# Altium footprint library PcbLib1_AL.PcbLib: 24 footprints (part 1 of 2)
Each footprint in its own frame and in the unit in brackets; x right, y up, seen from the top. Pads: shape width x height; smd on the part's side, far side on the other; paste and mask are expansions set on the pad; w line width, h text height; cw(c..) or ccw(c..) is an arc to the next point about the centre after c.
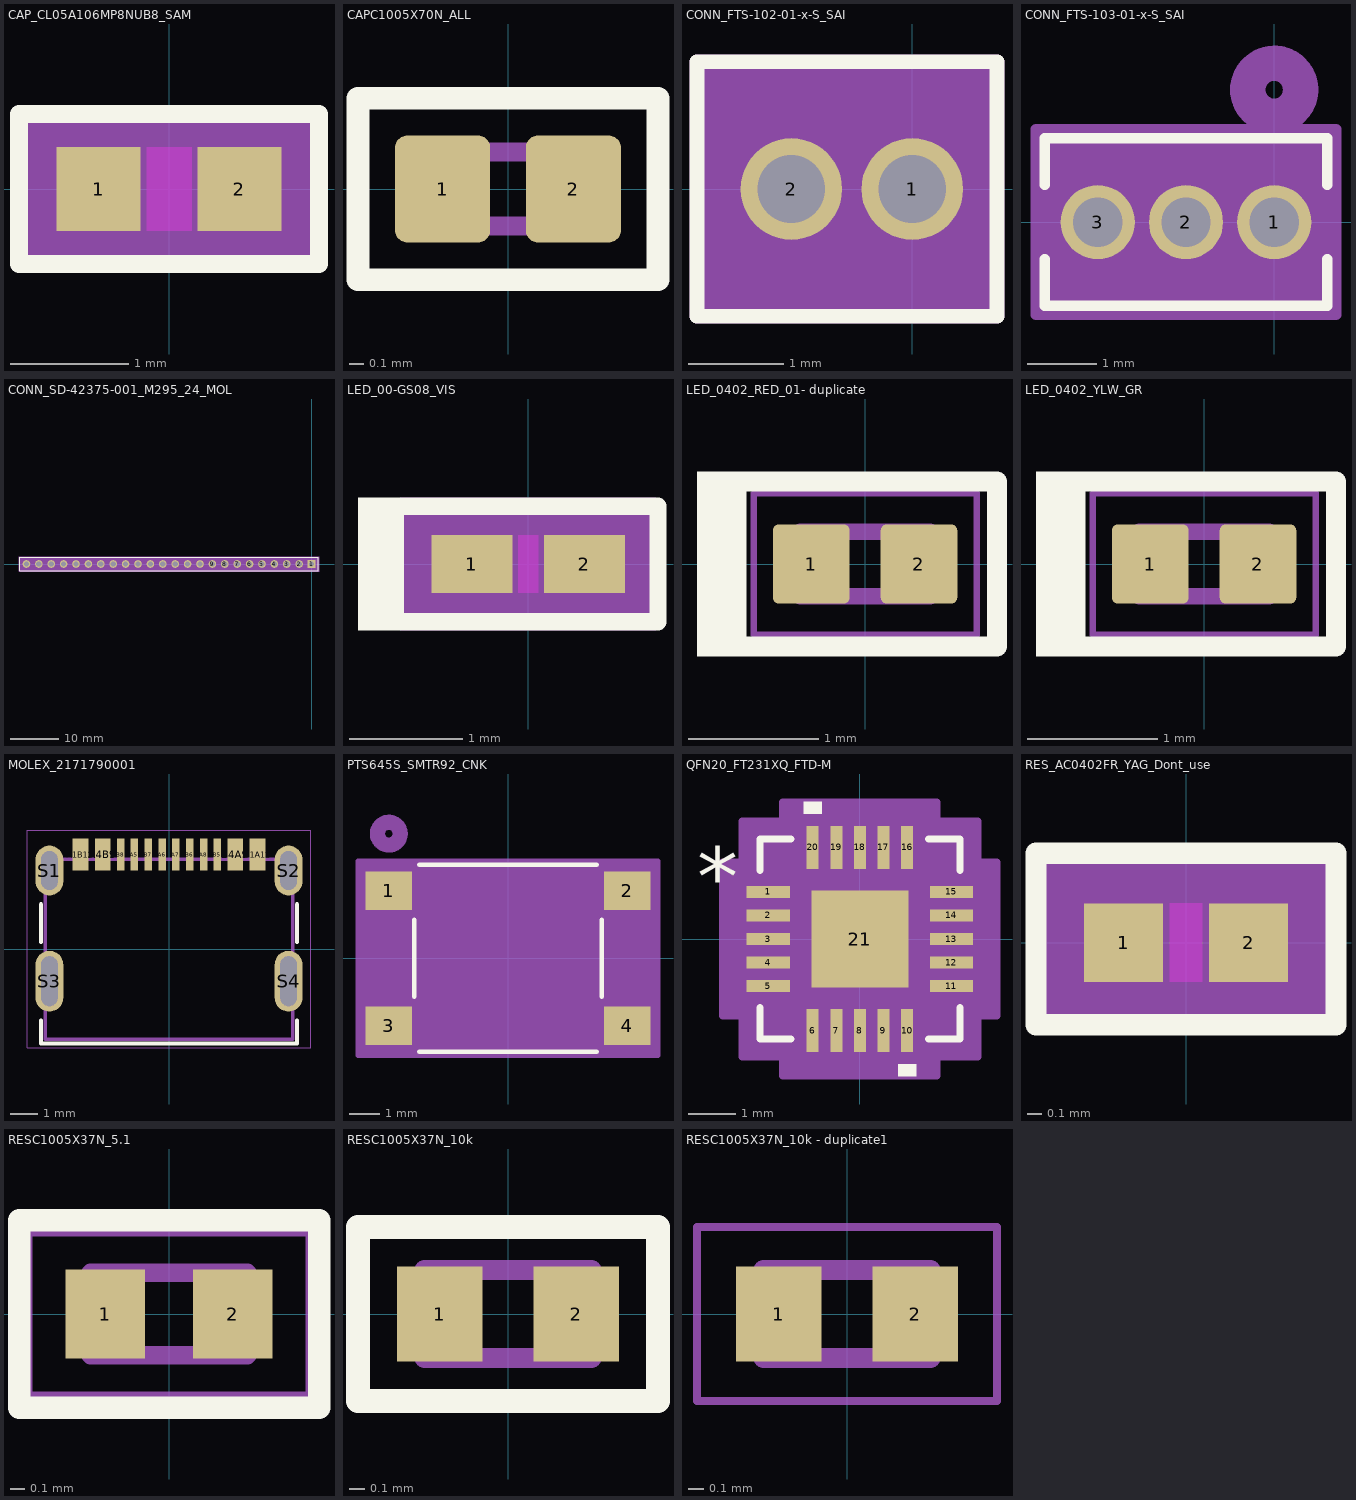
[diagram p0: the footprints below, top view; thin cyan lines are the x and y axes]

## CAP_CL05A106MP8NUB8_SAM [mil]
pads (2):
  rect 28x28 smd paste+0 mask+0: 1(-23.5,0) 2(23.5,0)
Top Overlay:
  lines w6: -50,-25 50,-25 50,25 -50,25 -50,-25
Keep-Out Layer:
  region: -7.5,-14 -7.5,14 7.5,14 7.5,-14
Mechanical 13:
  lines w1: -23.5,-14 -23.5,14 ; -23.5,-14 -9.5,-14 -9.5,14 -23.5,14 ; -23.5,-14 23.5,-14 ; -23.5,-14 -23.5,14 ; -23.5,14 23.5,14 ; 23.5,-14 23.5,14 ; 23.5,-14 9.5,-14 9.5,14 23.5,14 ; 23.5,-14 23.5,14
Mechanical 15:
  region: 47.5,-24 -47.5,-24 -47.5,24 47.5,24
  lines w6: -47.5,-24 -47.5,24 47.5,24 47.5,-24 -47.5,-24
3D body "CAP_CL05A106MP8NUB8_SAM.step": height 35, standoff 0, extent -23.5,-14.02 23.5,14.02

## CAPC1005X70N_ALL [mm]
height 0.7
pads (2):
  rrect25% 0.64x0.72 smd: 1(-0.44,0) 2(0.44,0)
Top Overlay:
  lines w0.152: -1.01,-0.61 1.01,-0.61 1.01,0.61 -1.01,0.61 -1.01,-0.61
Mechanical 13:
  lines w0.127: -0.5,-0.25 0.5,-0.25 0.5,0.25 -0.5,0.25 -0.5,-0.25
Mechanical 15:
  lines w0.05: -1.01,-0.61 -1.01,0.61 1.01,0.61 1.01,-0.61 -1.01,-0.61
3D body "0402_CAP.stp": height 0.65, standoff 0.01, extent -0.508,-0.254 0.508,0.254

## CONN_FTS-102-01-x-S_SAI [mil]
pads (2):
  round 42 hole 28 paste-99999 mask+0: 1(0,0) 2(-50,0)
Top Overlay:
  lines w6: -89,-52.5 -89,52.5 35,52.5 35,-52.5 -89,-52.5
Mechanical 13:
  lines w1: -78,-42.5 -78,42.5 25,42.5 25,-42.5 -78,-42.5
Mechanical 15:
  region: 35,52.5 -89,52.5 -89,-52.5 35,-52.5
  lines w6: -89,-52.5 35,-52.5 35,52.5 -89,52.5 -89,-52.5
3D body "FTS-102-01-F-S.stp": height 154, standoff -90, extent -76,-42.5 24,42.5

## CONN_FTS-103-01-x-S_SAI [mil]
pads (3):
  round 42 hole 28 paste-99999 mask+0: 1(0,0) 2(-50,0) 3(-100,0)
Top Overlay:
  lines w6: -130,-21.08 -130,-47.5 30,-47.5 30,-21.08 ; -130,21.08 -130,47.5 30,47.5 30,21.08
Mechanical 13:
  circle w20: c0,75 r15
  lines w1: -125,-42.5 -125,42.5 25,42.5 25,-42.5 -125,-42.5
Mechanical 15:
  region: 35,52.5 -135,52.5 -135,-52.5 35,-52.5
  lines w6: -135,-52.5 35,-52.5 35,52.5 -135,52.5 -135,-52.5
3D body "FTS-103-01-F-S.stp": height 154, standoff -90, extent -125,-42.5 25,42.5

## CONN_SD-42375-001_M295_24_MOL [mil]
pads (24):
  rect 62x62 / inner rect 60x60 / far side rect 62x62 hole 42 paste-99999 mask+0: 1(0,0)
  round 62 / inner round 60 / far side round 62 hole 42 paste-99999 mask+0: 2(-100,0) 3(-200,0) 4(-300,0) 5(-400,0) 6(-500,0) 7(-600,0) 8(-700,0) 9(-800,0) 10(-900,0) 11(-1000,0) 12(-1100,0) 13(-1200,0) 14(-1300,0) 15(-1400,0) 16(-1500,0) 17(-1600,0) 18(-1700,0) 19(-1800,0) 20(-1900,0) 21(-2000,0) 22(-2100,0) 23(-2200,0) 24(-2300,0)
Top Overlay:
  lines w6: -2355,-54 55,-54 55,54 -2355,54 -2355,-54
Mechanical 13:
  lines w1: -2350,-49 50,-49 50,49 -2350,49 -2350,-49
Mechanical 15:
  region: 60,59 -2360,59 -2360,-59 60,-59
  lines w6: -2360,-59 -2360,59 60,59 60,-59 -2360,-59
3D body "022284245.stp": height 385, standoff -120, extent -2350,-49 50,49

## LED_00-GS08_VIS [mil]
pads (2):
  rect 28x20 smd paste+0 mask+0: 1(-19.5,0) 2(19.5,0)
Top Layer keep-out:
  region: -3.5,-8 -3.5,8 3.5,8 3.5,-8
Top Overlay:
  rectangle: -59,-23 -43,23
  lines w6: -50,-20 45,-20 45,20 -50,20 -50,-20
Keep-Out Layer:
  region: -3.5,-10 -3.5,10 3.5,10 3.5,-10
Mechanical 13:
  circle w0: c-14.5,0 r3
  lines w1: -19.5,-10 -19.5,10 ; -19.5,-10 -5.5,-10 -5.5,10 -19.5,10 ; -19.5,-10 19.5,-10 ; -19.5,-10 -19.5,10 ; -19.5,10 19.5,10 ; 19.5,-10 5.5,-10 5.5,10 19.5,10 ; 19.5,-10 19.5,10 ; 19.5,-10 19.5,10
Mechanical 15:
  region: 43.5,-20 -43.5,-20 -43.5,20 43.5,20
  lines w6: -43.5,-20 -43.5,20 43.5,20 43.5,-20 -43.5,-20
3D body "LED_00-GS08_VIS.step": height 14.02, standoff 0, extent -19.49,-10 19.49,10

## LED_0402_RED_01- duplicate [mm]
pads (2):
  rrect15% 0.59x0.61 smd: 1(-0.415,0) 2(0.415,0)
Top Overlay:
  rectangle: -1.295,-0.711 -0.914,0.711
  lines w0.152: -1.016,-0.635 1.016,-0.635 1.016,0.635 -1.016,0.635 -1.016,-0.635
Mechanical 13:
  lines w0.127: -0.5,-0.25 -0.5,0.25 0.5,0.25 0.5,-0.25 -0.5,-0.25
Mechanical 15:
  lines w0.05: -0.86,-0.545 -0.86,0.545 0.86,0.545 0.86,-0.545 -0.86,-0.545
3D body "ChipLedWithLensRed.stp": height 0.35, standoff 0, extent -0.502,-0.252 0.502,0.252
3D body "ChipLedWithLensRed.stp": height -0.38, standoff -0.73, extent -0.502,-0.252 0.502,0.252

## LED_0402_YLW_GR [mm]
pads (2):
  rrect15% 0.59x0.61 smd: 1(-0.415,0) 2(0.415,0)
Top Overlay:
  rectangle: -1.295,-0.711 -0.914,0.711
  lines w0.152: -1.016,-0.635 -1.016,0.635 1.016,0.635 1.016,-0.635 -1.016,-0.635
Mechanical 13:
  lines w0.127: -0.5,-0.25 0.5,-0.25 0.5,0.25 -0.5,0.25 -0.5,-0.25
Mechanical 15:
  lines w0.05: -0.86,-0.545 0.86,-0.545 0.86,0.545 -0.86,0.545 -0.86,-0.545
3D body "VLMx15xx_0402.stp": height 0.32, standoff -0.03, extent -0.5,-0.25 0.5,0.25

## MOLEX_2171790001 [mm]
height 3.16
pads (16):
  rect 0.565x1.15 smd mask+0.064: A1B12(-3.2,3.425) A4B9(-2.4,3.425) B1A12(3.2,3.425) B4A9(2.4,3.425)
  rect 0.273x1.15 smd mask+0.064: A5(-1.25,3.425) A6(-0.25,3.425) A7(0.25,3.425) A8(1.25,3.425) B5(1.75,3.425) B6(0.75,3.425) B7(-0.75,3.425) B8(-1.75,3.425)
  oval 1x1.8 hole 0.6 slot 1.4 at 90 deg mask+0.064: S1(-4.32,2.85) S2(4.32,2.85)
  oval 1x2.2 hole 0.6 slot 1.8 at 90 deg mask+0.064: S3(-4.32,-1.15) S4(4.32,-1.15)
Top Overlay:
  lines w0.152: -4.62,-2.57 -4.62,-3.4 4.62,-3.4 4.62,-2.57 ; -4.62,0.27 -4.62,1.63 ; 4.62,0.27 4.62,1.63
Mechanical 13:
  lines w0.13: -4.47,-3.25 4.47,-3.25 4.47,3.25 -4.47,3.25 -4.47,-3.25
Mechanical 15:
  lines w0.01: -5.12,-3.55 -5.12,4.3 5.12,4.3 5.12,-3.55 -5.12,-3.55
3D body "2171790001.stp": height 3.26, standoff -0.8, extent -4.47,-3.324 4.47,3.426

## PCBComponent_1 [mm]

## PTS645S_SMTR92_CNK [mm]
pads (4):
  rect 1.549x1.295 smd paste+0 mask+0: 1(-3.975,2.25) 2(3.975,2.25) 3(-3.975,-2.25) 4(3.975,-2.25)
Top Overlay:
  lines w0.152: -3.124,-1.278 -3.124,1.278 ; -2.957,-3.124 2.957,-3.124 ; -2.957,3.124 2.957,3.124 ; 3.124,-1.278 3.124,1.278
Mechanical 13:
  circle w0.508: c-3.975,4.155 r0.381
  lines w0.025: -2.997,-2.997 2.997,-2.997 2.997,2.997 -2.997,2.997 -2.997,-2.997
Mechanical 15:
  region: 5.004,3.251 -5.004,3.251 -5.004,-3.251 5.004,-3.251
  lines w0.152: -5.004,-3.251 -5.004,3.251 5.004,3.251 5.004,-3.251 -5.004,-3.251
3D body "PTS645SH50SMTR92 LFS.STEP": height 5, standoff 0, extent -4.475,-3 4.525,3

## QFN20_FT231XQ_FTD-M [mil]
pads (21):
  rect 36x10 smd paste+0 mask+0: 1(-76.5,39.37) 2(-76.5,19.68) 3(-76.5,0) 4(-76.5,-19.68) 5(-76.5,-39.37) 11(76.5,-39.37) 12(76.5,-19.68) 13(76.5,0) 14(76.5,19.68) 15(76.5,39.37)
  rect 10x36 smd paste+0 mask+0: 6(-39.37,-76.5) 7(-19.68,-76.5) 8(0,-76.5) 9(19.68,-76.5) 10(39.37,-76.5) 16(39.37,76.5) 17(19.68,76.5) 18(0,76.5) 19(-19.68,76.5) 20(-39.37,76.5)
  rect 81x81 smd paste+0 mask+0: 21(0,0)
Top Overlay:
  region: 46.87,-104.5 31.87,-104.5 31.87,-114.5 46.87,-114.5
  region: -31.87,104.5 -46.87,104.5 -46.87,114.5 -31.87,114.5
  lines w6: -83.5,-57.47 -83.5,-83.5 -57.47,-83.5 ; -83.5,57.47 -83.5,83.5 -57.47,83.5 ; 57.47,-83.5 83.5,-83.5 83.5,-57.47 ; 57.47,83.5 83.5,83.5 83.5,57.47
  text "*" at -136,27 h50
Mechanical 13:
  lines w1: -78.5,28.5 -28.5,78.5 ; -78.5,-78.5 78.5,-78.5 78.5,78.5 -78.5,78.5 -78.5,-78.5 ; -78.5,-45.37 -78.5,-33.37 -78.5,-45.37 ; -78.5,-25.68 -78.5,-13.69 -78.5,-25.68 ; -78.5,-6 -78.5,6 -78.5,-6 ; -78.5,13.69 -78.5,25.68 -78.5,13.69 ; -78.5,33.37 -78.5,45.37 -78.5,33.37 ; -45.37,-78.5 -33.37,-78.5 -45.37,-78.5 ; -45.37,78.5 -33.37,78.5 -45.37,78.5 ; -25.68,-78.5 -13.69,-78.5 -25.68,-78.5 ; -25.68,78.5 -13.69,78.5 -25.68,78.5 ; -6,-78.5 6,-78.5 -6,-78.5 ; -6,78.5 6,78.5 -6,78.5 ; 13.69,-78.5 25.68,-78.5 13.69,-78.5 ; 13.69,78.5 25.68,78.5 13.69,78.5 ; 33.37,-78.5 45.37,-78.5 33.37,-78.5 ; 33.37,78.5 45.37,78.5 33.37,78.5 ; 78.5,-45.37 78.5,-33.37 78.5,-45.37 ; 78.5,-25.68 78.5,-13.69 78.5,-25.68 ; 78.5,-6 78.5,6 78.5,-6 ; 78.5,13.69 78.5,25.68 78.5,13.69 ; 78.5,33.37 78.5,45.37 78.5,33.37
  text "*" at -71,24.21 h50
Mechanical 15:
  region: -64.37,-98.5 -98.5,-98.5 -98.5,-64.37 -114.5,-64.37 -114.5,64.37 -98.5,64.37 -98.5,98.5 -64.37,98.5 -64.37,114.5 64.37,114.5 64.37,98.5 98.5,98.5 98.5,64.37 114.5,64.37 114.5,-64.37 98.5,-64.37 98.5,-98.5 64.37,-98.5 64.37,-114.5 -64.37,-114.5
  lines w6: -114.5,-64.37 -98.5,-64.37 -98.5,-98.5 -64.37,-98.5 -64.37,-114.5 64.37,-114.5 64.37,-98.5 98.5,-98.5 98.5,-64.37 114.5,-64.37 114.5,64.37 98.5,64.37 98.5,98.5 64.37,98.5 64.37,114.5 -64.37,114.5 -64.37,98.5 -98.5,98.5 -98.5,64.37 -114.5,64.37 -114.5,-64.37
3D body "QFN20_FT231XQ_FTD.step": height 32.09, standoff 0, extent -78.5,-78.5 78.5,78.5

## RES_AC0402FR_YAG_Dont_use [mil]
pads (2):
  rect 22x22 smd paste+0 mask+0: 1(-17.5,0) 2(17.5,0)
Top Layer keep-out:
  region: -4.5,-9 -4.5,9 4.5,9 4.5,-9
Top Overlay:
  lines w6: -42,-23 42,-23 42,25 -42,25 -42,-23
Keep-Out Layer:
  region: -4.5,-11 -4.5,11 4.5,11 4.5,-11
Mechanical 13:
  lines w1: -20.5,-11 -20.5,11 ; -20.5,-11 20.5,-11 ; -20.5,-11 -6.5,-11 -6.5,11 -20.5,11 ; -20.5,-11 -20.5,11 ; -20.5,11 20.5,11 ; 20.5,-11 20.5,11 ; 20.5,-11 20.5,11 ; 20.5,-11 6.5,-11 6.5,11 20.5,11
Mechanical 15:
  region: 38.5,-21 -38.5,-21 -38.5,21 38.5,21
  lines w6: -38.5,-21 38.5,-21 38.5,21 -38.5,21 -38.5,-21
3D body "RES_AC0402FR_YAG.step": height 15, standoff 0, extent -20.51,-10.98 20.51,10.98

## RESC1005X37N_5.1 [mm]
pads (2):
  rect 0.54x0.6 smd: 1(-0.432,0) 2(0.432,0)
Top Overlay:
  lines w0.152: -1.016,-0.635 -1.016,0.635 1.016,0.635 1.016,-0.635 -1.016,-0.635
Mechanical 13:
  lines w0.127: -0.53,-0.28 -0.53,0.28 0.53,0.28 0.53,-0.28 -0.53,-0.28
Mechanical 15:
  lines w0.05: -0.95,-0.55 -0.95,0.55 0.95,0.55 0.95,-0.55 -0.95,-0.55
3D body "R0402.step": height 0.33, standoff -0.02, extent -0.5,-0.25 0.5,0.25

## RESC1005X37N_10k [mm]
pads (2):
  rect 0.54x0.6 smd: 1(-0.432,0) 2(0.432,0)
Top Overlay:
  lines w0.152: -0.95,-0.55 -0.95,0.55 0.95,0.55 0.95,-0.55 -0.95,-0.55
Mechanical 13:
  lines w0.127: -0.53,-0.28 -0.53,0.28 0.53,0.28 0.53,-0.28 -0.53,-0.28
Mechanical 15:
  lines w0.05: -0.95,-0.55 -0.95,0.55 0.95,0.55 0.95,-0.55 -0.95,-0.55
3D body "Resistor_0402_Text.step": height 0.37, standoff 0.01, extent -0.508,-0.254 0.508,0.254

## RESC1005X37N_10k - duplicate1 [mm]
pads (2):
  rect 0.54x0.6 smd: 1(-0.432,0) 2(0.432,0)
Mechanical 13:
  lines w0.127: -0.53,-0.28 0.53,-0.28 0.53,0.28 -0.53,0.28 -0.53,-0.28
Mechanical 15:
  lines w0.05: -0.95,-0.55 0.95,-0.55 0.95,0.55 -0.95,0.55 -0.95,-0.55
3D body "Resistor_0402_Text.step": height 0.37, standoff 0.01, extent -0.508,-0.254 0.508,0.254